# EAGLE library part SN74LS148_NS_16 (library power_module)
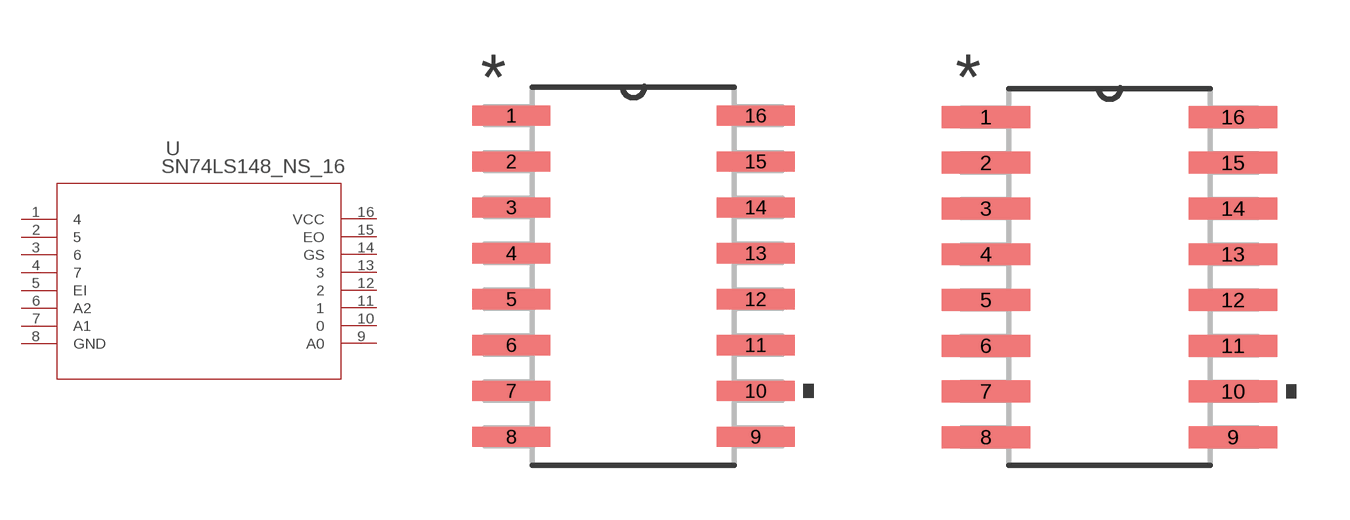
[diagram p10: symbol with the pads of NS16; footprints NS16, NS16-M]

Designator prefix U

## SN74LS148_NS_16  [NS16]
1  4  in
2  5  in
3  6  in
4  7  in
5  EI  in
6  A2  out
7  A1  out
8  GND  pwr
9  A0  out
10  0  in
11  1  in
12  2  in
13  3  in
14  GS  out
15  EO  out
16  VCC  pwr

## SN74LS148_NS_16NS16-M  [NS16-M]
Pads as for NS16

## SN74LS148_NS_16NS16-L  [NS16-L]
Pads as for NS16

## Footprint NS16 (pad centres in mm)
smd 2.159 x 0.559: 1 -3.378,4.445; 2 -3.378,3.175; 3 -3.378,1.905; 4 -3.378,0.635; 5 -3.378,-0.635; 6 -3.378,-1.905; 7 -3.378,-3.175; 8 -3.378,-4.445; 9 3.378,-4.445; 10 3.378,-3.175; 11 3.378,-1.905; 12 3.378,-0.635; 13 3.378,0.635; 14 3.378,1.905; 15 3.378,3.175; 16 3.378,4.445

## Footprint NS16-M (pad centres in mm)
smd 2.464 x 0.61: 1 -3.429,4.445; 2 -3.429,3.175; 3 -3.429,1.905; 4 -3.429,0.635; 5 -3.429,-0.635; 6 -3.429,-1.905; 7 -3.429,-3.175; 8 -3.429,-4.445; 9 3.429,-4.445; 10 3.429,-3.175; 11 3.429,-1.905; 12 3.429,-0.635; 13 3.429,0.635; 14 3.429,1.905; 15 3.429,3.175; 16 3.429,4.445

## Footprint NS16-L (pad centres in mm)
smd 1.854 x 0.508: 1 -3.327,4.445; 2 -3.327,3.175; 3 -3.327,1.905; 4 -3.327,0.635; 5 -3.327,-0.635; 6 -3.327,-1.905; 7 -3.327,-3.175; 8 -3.327,-4.445; 9 3.327,-4.445; 10 3.327,-3.175; 11 3.327,-1.905; 12 3.327,-0.635; 13 3.327,0.635; 14 3.327,1.905; 15 3.327,3.175; 16 3.327,4.445